# Altium footprint library DO-214AC.PcbLib: 1 footprints
Each footprint in its own frame and in the unit in brackets; x right, y up, seen from the top. Pads: shape width x height; smd on the part's side, far side on the other; paste and mask are expansions set on the pad; w line width, h text height; cw(c..) or ccw(c..) is an arc to the next point about the centre after c.
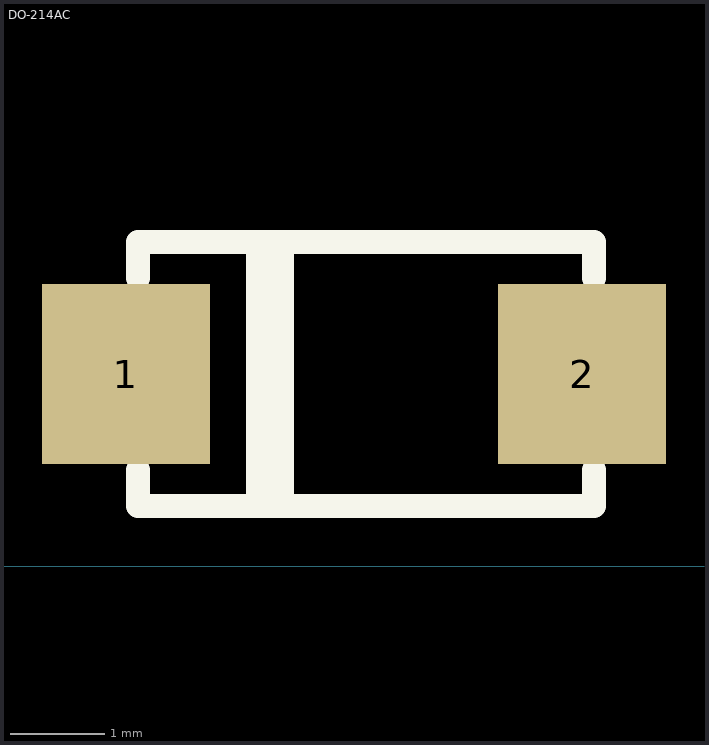
[diagram p0: the footprint, top view; thin cyan lines are the x and y axes]

## DO-214AC [mil]
pads (2):
  rect 70x75 smd: 1(195,80) 2(385,80)
Top Overlay:
  lines w0: 225,45.62 225,52.5
  lines w10: 200,40 200,25 390,25 390,40 ; 200,120 200,123.75 200,131.25 200,135 390,135 390,120
  lines w20: 255,30 255,130
3D body "User Library-DO-214AC(SMA).STEP": height 90, standoff 0, extent 182.01,25.01 398.01,135